# Altium footprint library WP-RATR.PcbLib: 20 footprints (part 2 of 2)
Each footprint in its own frame and in the unit in brackets; x right, y up, seen from the top. Pads: shape width x height; smd on the part's side, far side on the other; paste and mask are expansions set on the pad; w line width, h text height; cw(c..) or ccw(c..) is an arc to the next point about the centre after c.
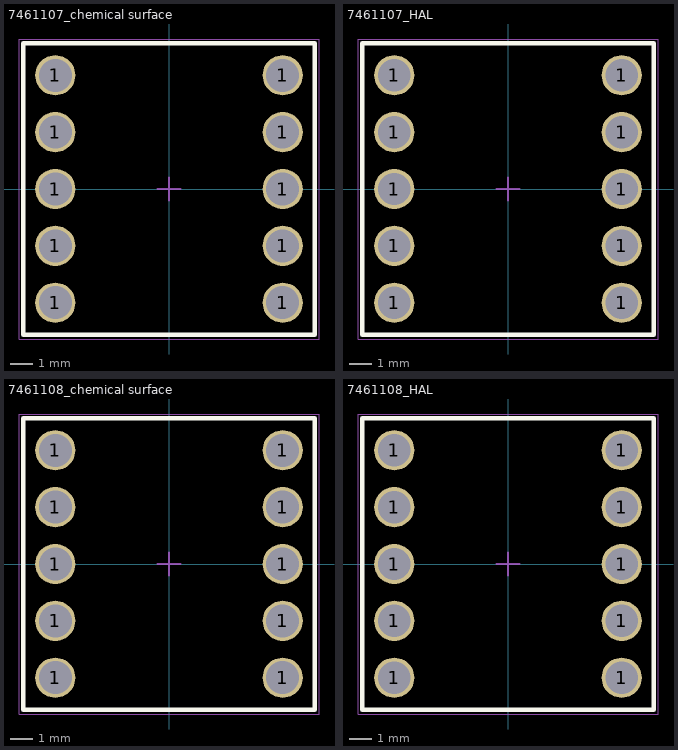
[diagram p1: the footprints below, top view; thin cyan lines are the x and y axes]

## 7461107_chemical surface [mm] "ID6.2mm, thrh 8mm"
height 20
pads (10):
  round 1.8 hole 1.475: 1(-5.08,-5.08) 1(-5.08,-2.54) 1(-5.08,0) 1(-5.08,2.54) 1(-5.08,5.08) 1(5.08,-5.08) 1(5.08,-2.54) 1(5.08,0) 1(5.08,2.54) 1(5.08,5.08)
Top Overlay:
  lines w0.2: -6.5,-6.5 6.5,-6.5 6.5,6.5 -6.5,6.5 -6.5,-6.5
Top Assembly:
  lines w0.1: -6.5,-6.5 -6.5,6.5 6.5,6.5 6.5,-6.5 -6.5,-6.5
Top Designator:
  text ".Designator" at -3.647,-0.357 h1
Top 3D Body:
  lines w0.1: -6.5,-6.5 6.5,-6.5 6.5,6.5 -6.5,6.5 -6.5,-6.5
Top Courtyard:
  lines w0.05: -6.7,-6.7 6.7,-6.7 6.7,6.7 -6.7,6.7 -6.7,-6.7
Top Component Center:
  lines w0.1: -0.5,0 0.5,0 ; 0,-0.5 0,0.5
3D body "7461107.stp": height 20, standoff -3.5, extent -6.5,-6.5 6.5,6.5

## 7461107_HAL [mm] "ID6.2mm, thrh 8mm"
height 20
pads (10):
  round 1.8 hole 1.45: 1(-5.08,-5.08) 1(-5.08,-2.54) 1(-5.08,0) 1(-5.08,2.54) 1(-5.08,5.08) 1(5.08,-5.08) 1(5.08,-2.54) 1(5.08,0) 1(5.08,2.54) 1(5.08,5.08)
Top Overlay:
  lines w0.2: -6.5,-6.5 6.5,-6.5 6.5,6.5 -6.5,6.5 -6.5,-6.5
Top Assembly:
  lines w0.1: -6.5,-6.5 -6.5,6.5 6.5,6.5 6.5,-6.5 -6.5,-6.5
Top Designator:
  text ".Designator" at -3.647,-0.357 h1
Top 3D Body:
  lines w0.1: -6.5,-6.5 -6.5,6.5 6.5,6.5 6.5,-6.5 -6.5,-6.5
Top Courtyard:
  lines w0.05: -6.7,-6.7 6.7,-6.7 6.7,6.7 -6.7,6.7 -6.7,-6.7
Top Component Center:
  lines w0.1: -0.5,0 0.5,0 ; 0,-0.5 0,0.5
3D body "7461107.stp": height 20, standoff -3.5, extent -6.5,-6.5 6.5,6.5

## 7461108_chemical surface [mm] "M8, thr 8mm"
height 20
pads (10):
  round 1.8 hole 1.475: 1(-5.08,-5.08) 1(-5.08,-2.54) 1(-5.08,0) 1(-5.08,2.54) 1(-5.08,5.08) 1(5.08,-5.08) 1(5.08,-2.54) 1(5.08,0) 1(5.08,2.54) 1(5.08,5.08)
Top Overlay:
  lines w0.2: -6.5,-6.5 6.5,-6.5 6.5,6.5 -6.5,6.5 -6.5,-6.5
Top Assembly:
  lines w0.1: -6.5,-6.5 -6.5,6.5 6.5,6.5 6.5,-6.5 -6.5,-6.5
Top Designator:
  text ".Designator" at -3.647,-0.357 h1
Top 3D Body:
  lines w0.1: -6.5,-6.5 6.5,-6.5 6.5,6.5 -6.5,6.5 -6.5,-6.5
Top Courtyard:
  lines w0.05: -6.7,-6.7 6.7,-6.7 6.7,6.7 -6.7,6.7 -6.7,-6.7
Top Component Center:
  lines w0.1: -0.5,0 0.5,0 ; 0,-0.5 0,0.5
3D body "7461108.stp": height 20, standoff -3.5, extent -6.5,-6.5 6.5,6.5

## 7461108_HAL [mm] "M8, thr 8mm"
height 20
pads (10):
  round 1.8 hole 1.45: 1(-5.08,-5.08) 1(-5.08,-2.54) 1(-5.08,0) 1(-5.08,2.54) 1(-5.08,5.08) 1(5.08,-5.08) 1(5.08,-2.54) 1(5.08,0) 1(5.08,2.54) 1(5.08,5.08)
Top Overlay:
  lines w0.2: -6.5,-6.5 -6.5,6.5 6.5,6.5 6.5,-6.5 -6.5,-6.5
Top Assembly:
  lines w0.1: -6.5,-6.5 -6.5,6.5 6.5,6.5 6.5,-6.5 -6.5,-6.5
Top Designator:
  text ".Designator" at -3.647,-0.357 h1
Top 3D Body:
  lines w0.1: -6.5,-6.5 6.5,-6.5 6.5,6.5 -6.5,6.5 -6.5,-6.5
Top Courtyard:
  lines w0.05: -6.7,-6.7 -6.7,6.7 6.7,6.7 6.7,-6.7 -6.7,-6.7
Top Component Center:
  lines w0.1: -0.5,0 0.5,0 ; 0,-0.5 0,0.5
3D body "7461108.stp": height 20, standoff -3.5, extent -6.5,-6.5 6.5,6.5